# Altium footprint library TE_1775838-2.PcbLib: 1 footprints
Each footprint in its own frame and in the unit in brackets; x right, y up, seen from the top. Pads: shape width x height; smd on the part's side, far side on the other; paste and mask are expansions set on the pad; w line width, h text height; cw(c..) or ccw(c..) is an arc to the next point about the centre after c.
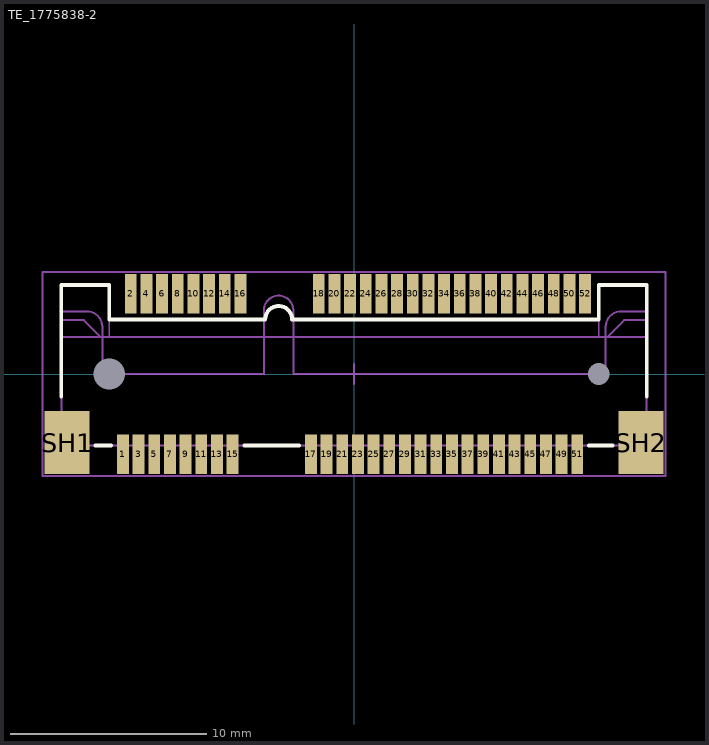
[diagram p0: the footprint, top view; thin cyan lines are the x and y axes]

## TE_1775838-2 [mm] "TE Connectivity 1775838-2"
height 5.6
pads (56):
  rect 0.6x2 smd mask+0.05: 1(-11.8,-4.1) 2(-11.4,4.1) 3(-11,-4.1) 4(-10.6,4.1) 5(-10.2,-4.1) 6(-9.8,4.1) 7(-9.4,-4.1) 8(-9,4.1) 9(-8.6,-4.1) 10(-8.2,4.1) 11(-7.8,-4.1) 12(-7.4,4.1) 13(-7,-4.1) 14(-6.6,4.1) 15(-6.2,-4.1) 16(-5.8,4.1) 17(-2.2,-4.1) 18(-1.8,4.1) 19(-1.4,-4.1) 20(-1,4.1) 21(-0.6,-4.1) 22(-0.2,4.1) 23(0.2,-4.1) 24(0.6,4.1) 25(1,-4.1) 26(1.4,4.1) 27(1.8,-4.1) 28(2.2,4.1) 29(2.6,-4.1) 30(3,4.1) 31(3.4,-4.1) 32(3.8,4.1) 33(4.2,-4.1) 34(4.6,4.1) 35(5,-4.1) 36(5.4,4.1) 37(5.8,-4.1) 38(6.2,4.1) 39(6.6,-4.1) 40(7,4.1) 41(7.4,-4.1) 42(7.8,4.1) 43(8.2,-4.1) 44(8.6,4.1) 45(9,-4.1) 46(9.4,4.1) 47(9.8,-4.1) 48(10.2,4.1) 49(10.6,-4.1) 50(11,4.1) 51(11.4,-4.1) 52(11.8,4.1)
  rect 2.3x3.2 smd mask+0.05: SH1(-14.65,-3.5) SH2(14.65,-3.5)
  round 0 hole 1.6 unplated mask+0.05: ""(-12.5,0)
  round 0 hole 1.1 unplated mask+0.05: ""(12.5,0)
Top Overlay:
  lines w0.2: -14.95,-1.14 -14.95,1.86 -14.95,4.54 -12.5,4.54 -12.5,2.79 ; -13.2,-3.66 -12.4,-3.66 ; -5.6,-3.66 -2.8,-3.66 ; 12,-3.66 13.2,-3.66 ; 14.95,-1.14 14.95,2.84 14.95,4.54 12.5,4.54 12.5,2.79 -3.165,2.79 ccw(c-3.85,2.79) -4.535,2.79 -12.5,2.79 ; -12.5,2.79 -12.5,2.79
Mechanical 13:
  lines w0.1: -14.95,2.75 -13.8,2.75 -12.95,1.9 ; -12.5,2.79 -4.535,2.79 cw(c-3.85,2.79) -3.165,2.79 12.5,2.79 ; 14.95,2.75 13.8,2.75 12.95,1.9 ; -14.95,1.9 -14.95,-3.66 14.95,-3.66 14.95,1.9 ; -14.95,1.9 -12.95,1.9 ; -14.95,1.9 -14.95,4.54 -12.5,4.54 -12.5,1.9 ; -12.95,1.9 -12.5,1.9 ; -12.5,1.9 0,1.9 12.5,1.9 ; 12.5,1.9 12.5,4.54 14.95,4.54 14.95,1.9 ; 12.5,1.9 12.95,1.9 ; 12.95,1.9 14.95,1.9
Mechanical 15:
  lines w0.1: -0.5,0 0.5,0 ; 0,-0.5 0,0.5 ; -15.9,-5.2 15.9,-5.2 15.9,5.2 -15.9,5.2 -15.9,-5.2
Mechanical 100:
  lines w0.1: -15,3.2 -13.65,3.2 cw(c-13.65,2.4) -12.85,2.4 -12.85,0 -4.6,0 -4.6,3.25 cw(c-3.85,3.25) -3.1,3.25 -3.1,0 12.85,0 12.85,2.4 cw(c13.65,2.4) 13.65,3.2 15,3.2
  text "PCB edge connector outline" at -7.623,-1.138 h0.8
3D body "Conn,PCI-Express (TE 1775838-2).STEP": height 5.58, standoff -0.67, extent -14.95,-4.54 14.95,4.54